# Altium footprint library RESC1005X40.PcbLib: 1 footprints
Each footprint in its own frame and in the unit in brackets; x right, y up, seen from the top. Pads: shape width x height; smd on the part's side, far side on the other; paste and mask are expansions set on the pad; w line width, h text height; cw(c..) or ccw(c..) is an arc to the next point about the centre after c.
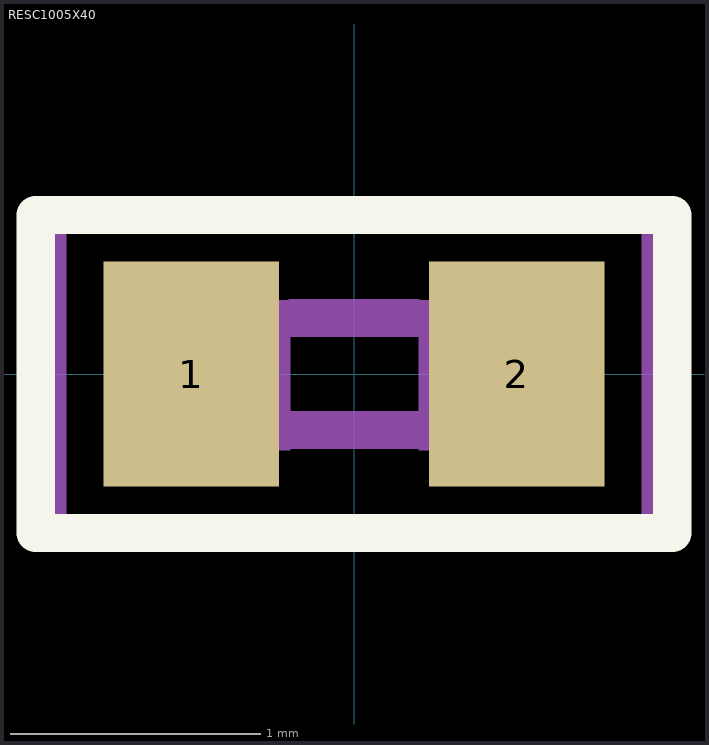
[diagram p0: the footprint, top view; thin cyan lines are the x and y axes]

## RESC1005X40 [mm]
pads (2):
  rect 0.7x0.9 smd: 1(-0.65,0) 2(0.65,0)
Top Overlay:
  lines w0.152: -1.27,-0.635 -1.27,0.635 1.27,0.635 1.27,-0.635 -1.27,-0.635
Mechanical 13:
  region: 0.559,-0.305 0.259,-0.305 0.259,0.295 0.559,0.295
  region: -0.254,-0.305 -0.555,-0.305 -0.555,0.295 -0.254,0.295
  lines w0.152: -0.245,-0.224 0.245,-0.224 ; -0.245,0.224 0.245,0.224
Mechanical 15:
  lines w0.051: -1.173,-0.633 -1.173,0.633 1.173,0.633 1.173,-0.633 -1.173,-0.633
3D body "step_temp.STEP": height 0.4, standoff 0, extent -0.5,-0.25 0.5,0.25